# EAGLE library part BGS12SL6 (library muccc)
Infinion BGS12SL6
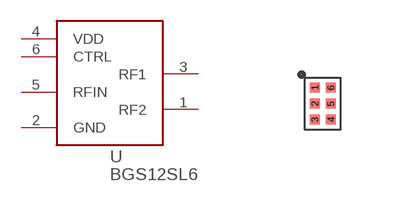
[diagram p6: symbol with the pads of TSLP-6-4; footprint TSLP-6-4]

Designator prefix -

## BGS12SL6  [TSLP-6-4]
1  RF2
2  GND  pwr
3  RF1
4  VDD  pwr
5  RFIN
6  CTRL  in

## Footprint TSLP-6-4 (pad centres in mm)
smd 0.25 x 0.25: 1 -0.2,0.4; 2 -0.2,0; 3 -0.2,-0.4; 4 0.2,-0.4; 5 0.2,0; 6 0.2,0.4